# EAGLE library part 108-0052-EVX (library switches)
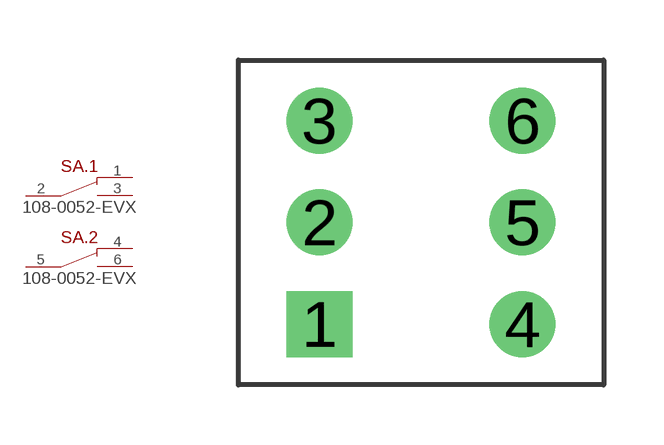
[diagram p8: symbol with the pads of 108-0052-EVX; footprint 108-0052-EVX]

Designator prefix SA; gates .1=SWITCH-2POS-BUTTON .2=SWITCH-2POS-BUTTON

## 108-0052-EVX (MOUSER: 108-0052-EVX)  [108-0052-EVX]
1  .1:NC  pas
2  .1:CM  pas
3  .1:NO  pas
4  .2:NC  pas
5  .2:CM  pas
6  .2:NO  pas

## Footprint 108-0052-EVX (pad centres in mm)
drill 1.1 square: 1 -2.54,-2.54
drill 1.1: 2 -2.54,0; 3 -2.54,2.54; 4 2.54,-2.54; 5 2.54,0; 6 2.54,2.54